# EAGLE library part AD8692ARZ (library SPEC_v48)
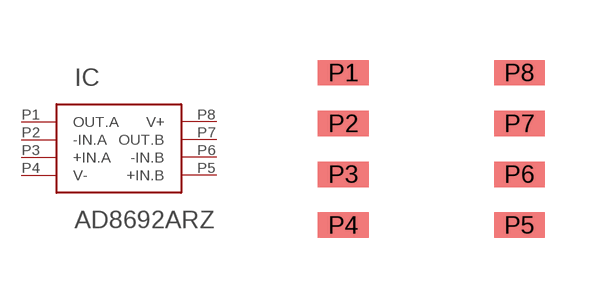
[diagram p4: symbol with the pads of AD8692ARZ; footprint AD8692ARZ]

Designator prefix IC

## AD8692ARZ  [AD8692ARZ]
P1  OUT.A
P2  -IN.A
P3  +IN.A
P4  V-  pas
P5  +IN.B
P6  -IN.B
P7  OUT.B
P8  V+  pas

## Footprint AD8692ARZ (pad centres in mm)
smd 1.27 x 0.635: P1 0,0; P2 0,-1.27; P3 0,-2.54; P4 0,-3.81; P5 4.4,-3.81; P6 4.4,-2.54; P7 4.4,-1.27; P8 4.4,0